# EAGLE library part OSD32MP157F-512M-EAA (library Octavo-Systems OSDZU3)
Octavo Systems LLC OSD32MP15x Family SiP: 18mm x 18mm, 1mm pitch 302 pin BGA contains STM32MP157F, 512MB DDR3L, STPMIC1A, 4kB EEPROM, MEMS oscillators (24MHz) and passives. Temperature range (case): -20C to 85C.
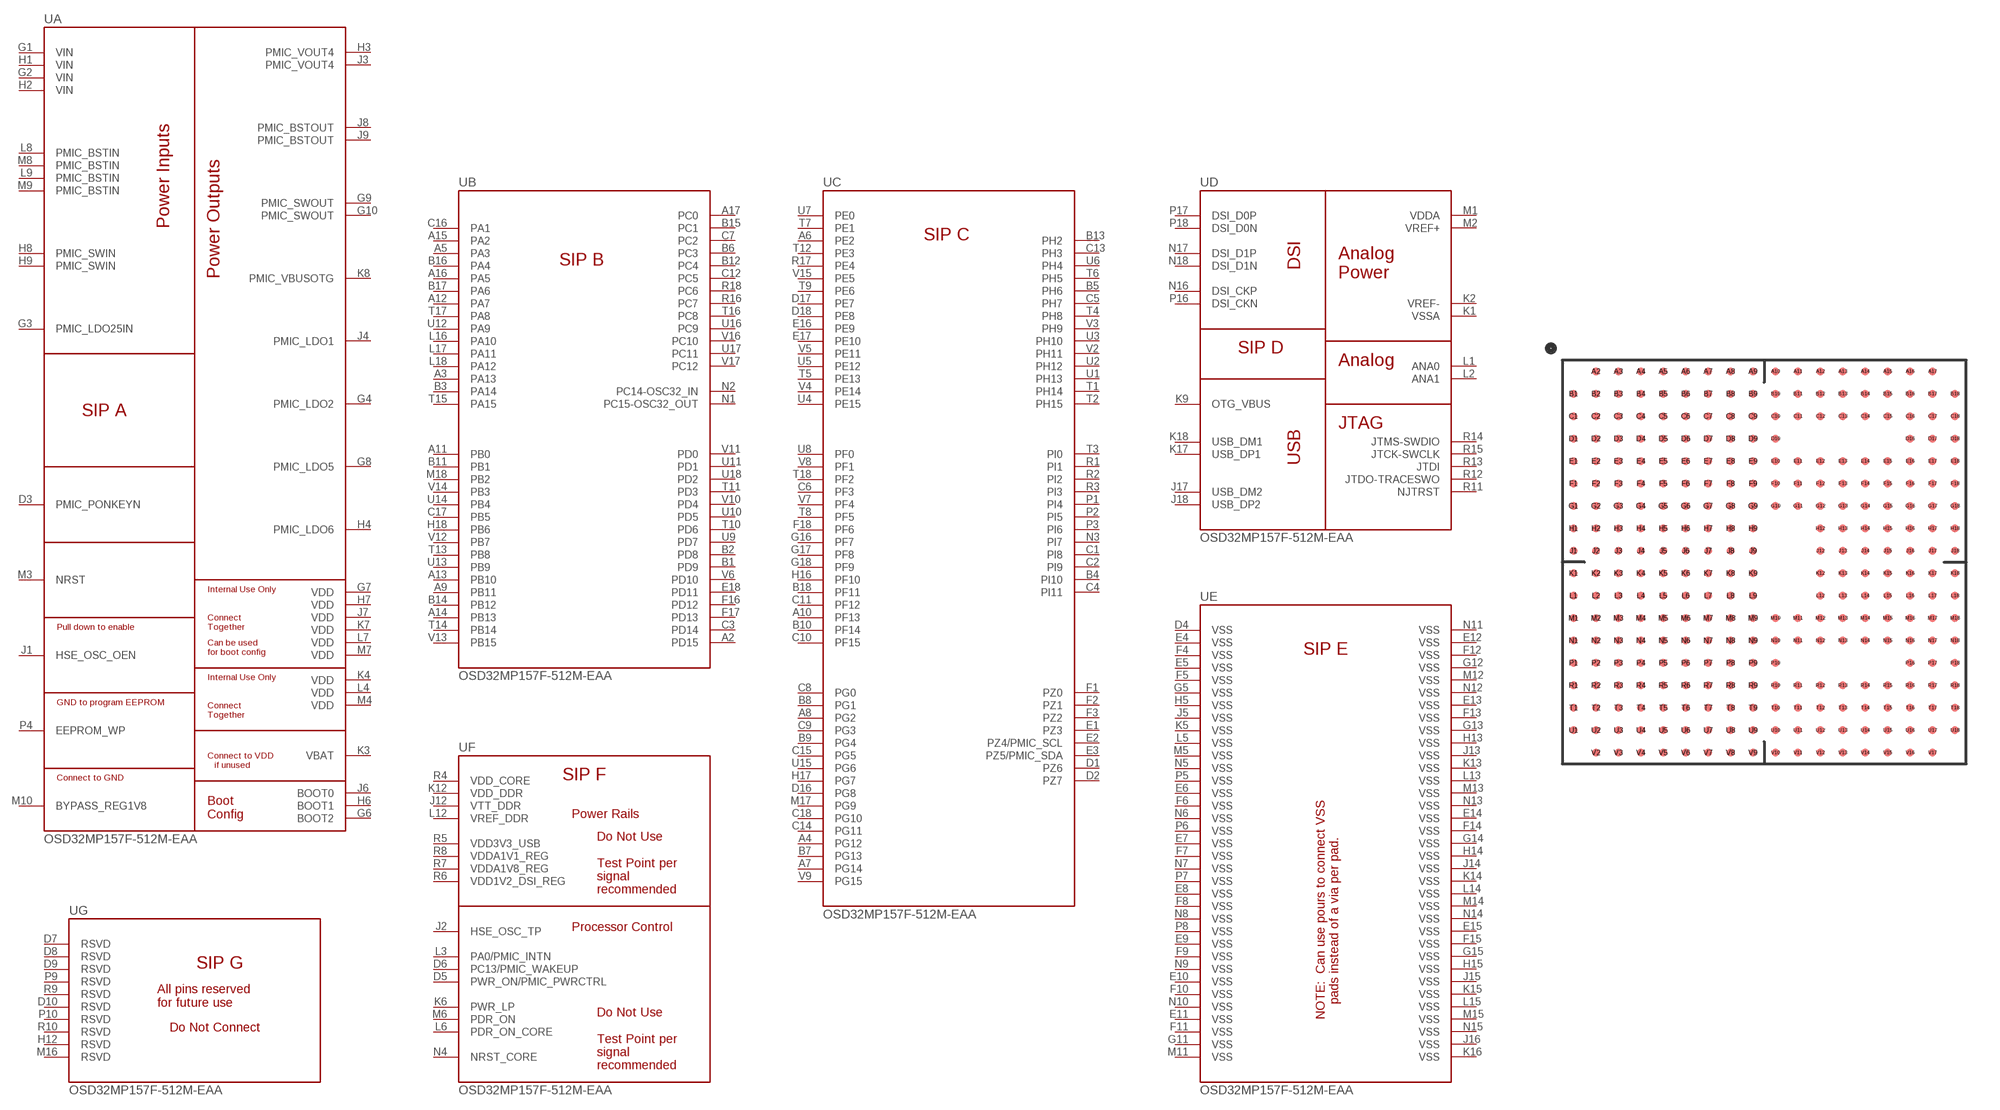
[diagram p11: symbol with the pads of OSD32MP15X-BGA-324; footprint OSD32MP15X-BGA-324]

Designator prefix U; gates A=OSD32MP15X-LOGICAL-A B=OSD32MP15X-LOGICAL-B D=OSD32MP15X-LOGICAL-D C=OSD32MP15X-LOGICAL-C E=OSD32MP15X-LOGICAL-E F=OSD32MP15X-LOGICAL-F G=OSD32MP15X-LOGICAL-G

## OSD32MP157F-512M-EAA  [OSD32MP15X-BGA-324]
A2  B:PD15
A3  B:PA13
A4  C:PG12
A5  B:PA3
A6  C:PE2
A7  C:PG14
A8  C:PG2
A9  B:PB11
A10  C:PF13
A11  B:PB0
A12  B:PA7
A13  B:PB10
A14  B:PB13
A15  B:PA2
A16  B:PA5
A17  B:PC0
B1  B:PD9
B2  B:PD8
B3  B:PA14
B4  C:PI10
B5  C:PH6
B6  B:PC3
B7  C:PG13
B8  C:PG1
B9  C:PG4
B10  C:PF14
B11  B:PB1
B12  B:PC4
B13  C:PH2
B14  B:PB12
B15  B:PC1
B16  B:PA4
B17  B:PA6
B18  C:PF11
C1  C:PI8
C2  C:PI9
C3  B:PD14
C4  C:PI11
C5  C:PH7
C6  C:PF3
C7  B:PC2
C8  C:PG0
C9  C:PG3
C10  C:PF15
C11  C:PF12
C12  B:PC5
C13  C:PH3
C14  C:PG11
C15  C:PG5
C16  B:PA1
C17  B:PB5
C18  C:PG10
D1  C:PZ6
D2  C:PZ7
D3  A:PMIC_PONKEYN
D4  E:VSS
D5  F:PWR_ON/PMIC_PWRCTRL
D6  F:PC13/PMIC_WAKEUP
D7  G:RSVD
D8  G:RSVD
D9  G:RSVD
D10  G:RSVD
D16  C:PG8
D17  C:PE7
D18  C:PE8
E1  C:PZ3
E2  C:PZ4/PMIC_SCL
E3  C:PZ5/PMIC_SDA
E4  E:VSS
E5  E:VSS
E6  E:VSS
E7  E:VSS
E8  E:VSS
E9  E:VSS
E10  E:VSS
E11  E:VSS
E12  E:VSS
E13  E:VSS
E14  E:VSS
E15  E:VSS
E16  C:PE9
E17  C:PE10
E18  B:PD11
F1  C:PZ0
F2  C:PZ1
F3  C:PZ2
F4  E:VSS
F5  E:VSS
F6  E:VSS
F7  E:VSS
F8  E:VSS
F9  E:VSS
F10  E:VSS
F11  E:VSS
F12  E:VSS
F13  E:VSS
F14  E:VSS
F15  E:VSS
F16  B:PD12
F17  B:PD13
F18  C:PF6
G1  A:VIN
G2  A:VIN
G3  A:PMIC_LDO25IN
G4  A:PMIC_LDO2
G5  E:VSS
G6  A:BOOT2
G7  A:VDD
G8  A:PMIC_LDO5
G9  A:PMIC_SWOUT
G10  A:PMIC_SWOUT
G11  E:VSS
G12  E:VSS
G13  E:VSS
G14  E:VSS
G15  E:VSS
G16  C:PF7
G17  C:PF8
G18  C:PF9
H1  A:VIN
H2  A:VIN
H3  A:PMIC_VOUT4
H4  A:PMIC_LDO6
H5  E:VSS
H6  A:BOOT1
H7  A:VDD
H8  A:PMIC_SWIN
H9  A:PMIC_SWIN
H12  G:RSVD
H13  E:VSS
H14  E:VSS
H15  E:VSS
H16  C:PF10
H17  C:PG7
H18  B:PB6
J1  A:HSE_OSC_OEN
J2  F:HSE_OSC_TP
J3  A:PMIC_VOUT4
J4  A:PMIC_LDO1
J5  E:VSS
J6  A:BOOT0
J7  A:VDD
J8  A:PMIC_BSTOUT
J9  A:PMIC_BSTOUT
J12  F:VTT_DDR
J13  E:VSS
J14  E:VSS
J15  E:VSS
J16  E:VSS
J17  D:USB_DM2
J18  D:USB_DP2
K1  D:VSSA
K2  D:VREF-
K3  A:VBAT
K4  A:VDD
K5  E:VSS
K6  F:PWR_LP
K7  A:VDD
K8  A:PMIC_VBUSOTG
K9  D:OTG_VBUS
K12  F:VDD_DDR
K13  E:VSS
K14  E:VSS
K15  E:VSS
K16  E:VSS
K17  D:USB_DP1
K18  D:USB_DM1
L1  D:ANA0
L2  D:ANA1
L3  F:PA0/PMIC_INTN
L4  A:VDD
L5  E:VSS
L6  F:PDR_ON_CORE
L7  A:VDD
L8  A:PMIC_BSTIN
L9  A:PMIC_BSTIN
L12  F:VREF_DDR
L13  E:VSS
L14  E:VSS
L15  E:VSS
L16  B:PA10
L17  B:PA11
L18  B:PA12
M1  D:VDDA
M2  D:VREF+
M3  A:NRST
M4  A:VDD
M5  E:VSS
M6  F:PDR_ON
M7  A:VDD
M8  A:PMIC_BSTIN
M9  A:PMIC_BSTIN
M10  A:BYPASS_REG1V8
M11  E:VSS
M12  E:VSS
M13  E:VSS
M14  E:VSS
M15  E:VSS
M16  G:RSVD
M17  C:PG9
M18  B:PB2
N1  B:PC15-OSC32_OUT
N2  B:PC14-OSC32_IN
N3  C:PI7
N4  F:NRST_CORE
N5  E:VSS
N6  E:VSS
N7  E:VSS
N8  E:VSS
N9  E:VSS
N10  E:VSS
N11  E:VSS
N12  E:VSS
N13  E:VSS
N14  E:VSS
N15  E:VSS
N16  D:DSI_CKP
N17  D:DSI_D1P
N18  D:DSI_D1N
P1  C:PI4
P2  C:PI5
P3  C:PI6
P4  A:EEPROM_WP
P5  E:VSS
P6  E:VSS
P7  E:VSS
P8  E:VSS
P9  G:RSVD
P10  G:RSVD
P16  D:DSI_CKN
P17  D:DSI_D0P
P18  D:DSI_D0N
R1  C:PI1
R2  C:PI2
R3  C:PI3
R4  F:VDD_CORE
R5  F:VDD3V3_USB
R6  F:VDD1V2_DSI_REG
R7  F:VDDA1V8_REG
R8  F:VDDA1V1_REG
R9  G:RSVD
R10  G:RSVD
R11  D:NJTRST
R12  D:JTDO-TRACESWO
R13  D:JTDI
R14  D:JTMS-SWDIO
R15  D:JTCK-SWCLK
R16  B:PC7
R17  C:PE4
R18  B:PC6
T1  C:PH14
T2  C:PH15
T3  C:PI0
T4  C:PH8
T5  C:PE13
T6  C:PH5
T7  C:PE1
T8  C:PF5
T9  C:PE6
T10  B:PD6
T11  B:PD3
T12  C:PE3
T13  B:PB8
T14  B:PB14
T15  B:PA15
T16  B:PC8
T17  B:PA8
T18  C:PF2
U1  C:PH13
U2  C:PH12
U3  C:PH10
U4  C:PE15
U5  C:PE12
U6  C:PH4
U7  C:PE0
U8  C:PF0
U9  B:PD7
U10  B:PD5
U11  B:PD1
U12  B:PA9
U13  B:PB9
U14  B:PB4
U15  C:PG6
U16  B:PC9
U17  B:PC11
U18  B:PD2
V2  C:PH11
V3  C:PH9
V4  C:PE14
V5  C:PE11
V6  B:PD10
V7  C:PF4
V8  C:PF1
V9  C:PG15
V10  B:PD4
V11  B:PD0
V12  B:PB7
V13  B:PB15
V14  B:PB3
V15  C:PE5
V16  B:PC10
V17  B:PC12

## Footprint OSD32MP15X-BGA-324 (pad centres in mm)
smd 0.35 x 0.35: A2 -7.5,8.5; A3 -6.5,8.5; A4 -5.5,8.5; A5 -4.5,8.5; A6 -3.5,8.5; A7 -2.5,8.5; A8 -1.5,8.5; A9 -0.5,8.5; A10 0.5,8.5; A11 1.5,8.5; A12 2.5,8.5; A13 3.5,8.5; A14 4.5,8.5; A15 5.5,8.5; A16 6.5,8.5; A17 7.5,8.5; B1 -8.5,7.5; B2 -7.5,7.5; B3 -6.5,7.5; B4 -5.5,7.5; B5 -4.5,7.5; B6 -3.5,7.5; B7 -2.5,7.5; B8 -1.5,7.5; B9 -0.5,7.5; B10 0.5,7.5; B11 1.5,7.5; B12 2.5,7.5; B13 3.5,7.5; B14 4.5,7.5; B15 5.5,7.5; B16 6.5,7.5; B17 7.5,7.5; B18 8.5,7.5; C1 -8.5,6.5; C2 -7.5,6.5; C3 -6.5,6.5; C4 -5.5,6.5; C5 -4.5,6.5; C6 -3.5,6.5; C7 -2.5,6.5; C8 -1.5,6.5; C9 -0.5,6.5; C10 0.5,6.5; C11 1.5,6.5; C12 2.5,6.5; C13 3.5,6.5; C14 4.5,6.5; C15 5.5,6.5; C16 6.5,6.5; C17 7.5,6.5; C18 8.5,6.5; D1 -8.5,5.5; D2 -7.5,5.5; D3 -6.5,5.5; D4 -5.5,5.5; D5 -4.5,5.5; D6 -3.5,5.5; D7 -2.5,5.5; D8 -1.5,5.5; D9 -0.5,5.5; D10 0.5,5.5; D16 6.5,5.5; D17 7.5,5.5; D18 8.5,5.5; E1 -8.5,4.5; E2 -7.5,4.5; E3 -6.5,4.5; E4 -5.5,4.5; E5 -4.5,4.5; E6 -3.5,4.5; E7 -2.5,4.5; E8 -1.5,4.5; E9 -0.5,4.5; E10 0.5,4.5; E11 1.5,4.5; E12 2.5,4.5; E13 3.5,4.5; E14 4.5,4.5; E15 5.5,4.5; E16 6.5,4.5; E17 7.5,4.5; E18 8.5,4.5; F1 -8.5,3.5; F2 -7.5,3.5; F3 -6.5,3.5; F4 -5.5,3.5; F5 -4.5,3.5; F6 -3.5,3.5; F7 -2.5,3.5; F8 -1.5,3.5; F9 -0.5,3.5; F10 0.5,3.5; F11 1.5,3.5; F12 2.5,3.5; F13 3.5,3.5; F14 4.5,3.5; F15 5.5,3.5; F16 6.5,3.5; F17 7.5,3.5; F18 8.5,3.5; G1 -8.5,2.5; G2 -7.5,2.5; G3 -6.5,2.5; G4 -5.5,2.5; G5 -4.5,2.5; G6 -3.5,2.5; G7 -2.5,2.5; G8 -1.5,2.5; G9 -0.5,2.5; G10 0.5,2.5; G11 1.5,2.5; G12 2.5,2.5; G13 3.5,2.5; G14 4.5,2.5; G15 5.5,2.5; G16 6.5,2.5; G17 7.5,2.5; G18 8.5,2.5; H1 -8.5,1.5; H2 -7.5,1.5; H3 -6.5,1.5; H4 -5.5,1.5; H5 -4.5,1.5; H6 -3.5,1.5; H7 -2.5,1.5; H8 -1.5,1.5; H9 -0.5,1.5; H12 2.5,1.5; H13 3.5,1.5; H14 4.5,1.5; H15 5.5,1.5; H16 6.5,1.5; H17 7.5,1.5; H18 8.5,1.5; J1 -8.5,0.5; J2 -7.5,0.5; J3 -6.5,0.5; J4 -5.5,0.5; J5 -4.5,0.5; J6 -3.5,0.5; J7 -2.5,0.5; J8 -1.5,0.5; J9 -0.5,0.5; J12 2.5,0.5; J13 3.5,0.5; J14 4.5,0.5; J15 5.5,0.5; J16 6.5,0.5; J17 7.5,0.5; J18 8.5,0.5; K1 -8.5,-0.5; K2 -7.5,-0.5; K3 -6.5,-0.5; K4 -5.5,-0.5; K5 -4.5,-0.5; K6 -3.5,-0.5; K7 -2.5,-0.5; K8 -1.5,-0.5; K9 -0.5,-0.5; K12 2.5,-0.5; K13 3.5,-0.5; K14 4.5,-0.5; K15 5.5,-0.5; K16 6.5,-0.5; K17 7.5,-0.5; K18 8.5,-0.5; L1 -8.5,-1.5; L2 -7.5,-1.5; L3 -6.5,-1.5; L4 -5.5,-1.5; L5 -4.5,-1.5; L6 -3.5,-1.5; L7 -2.5,-1.5; L8 -1.5,-1.5; L9 -0.5,-1.5; L12 2.5,-1.5; L13 3.5,-1.5; L14 4.5,-1.5; L15 5.5,-1.5; L16 6.5,-1.5; L17 7.5,-1.5; L18 8.5,-1.5; M1 -8.5,-2.5; M2 -7.5,-2.5; M3 -6.5,-2.5; M4 -5.5,-2.5; M5 -4.5,-2.5; M6 -3.5,-2.5; M7 -2.5,-2.5; M8 -1.5,-2.5; M9 -0.5,-2.5; M10 0.5,-2.5; M11 1.5,-2.5; M12 2.5,-2.5; M13 3.5,-2.5; M14 4.5,-2.5; M15 5.5,-2.5; M16 6.5,-2.5; M17 7.5,-2.5; M18 8.5,-2.5; N1 -8.5,-3.5; N2 -7.5,-3.5; N3 -6.5,-3.5; N4 -5.5,-3.5; N5 -4.5,-3.5; N6 -3.5,-3.5; N7 -2.5,-3.5; N8 -1.5,-3.5; N9 -0.5,-3.5; N10 0.5,-3.5; N11 1.5,-3.5; N12 2.5,-3.5; N13 3.5,-3.5; N14 4.5,-3.5; N15 5.5,-3.5; N16 6.5,-3.5; N17 7.5,-3.5; N18 8.5,-3.5; P1 -8.5,-4.5; P2 -7.5,-4.5; P3 -6.5,-4.5; P4 -5.5,-4.5; P5 -4.5,-4.5; P6 -3.5,-4.5; P7 -2.5,-4.5; P8 -1.5,-4.5; P9 -0.5,-4.5; P10 0.5,-4.5; P16 6.5,-4.5; P17 7.5,-4.5; P18 8.5,-4.5; R1 -8.5,-5.5; R2 -7.5,-5.5; R3 -6.5,-5.5; R4 -5.5,-5.5; R5 -4.5,-5.5; R6 -3.5,-5.5; R7 -2.5,-5.5; R8 -1.5,-5.5; R9 -0.5,-5.5; R10 0.5,-5.5; R11 1.5,-5.5; R12 2.5,-5.5; R13 3.5,-5.5; R14 4.5,-5.5; R15 5.5,-5.5; R16 6.5,-5.5; R17 7.5,-5.5; R18 8.5,-5.5; T1 -8.5,-6.5; T2 -7.5,-6.5; T3 -6.5,-6.5; T4 -5.5,-6.5; T5 -4.5,-6.5; T6 -3.5,-6.5; T7 -2.5,-6.5; T8 -1.5,-6.5; T9 -0.5,-6.5; T10 0.5,-6.5; T11 1.5,-6.5; T12 2.5,-6.5; T13 3.5,-6.5; T14 4.5,-6.5; T15 5.5,-6.5; T16 6.5,-6.5; T17 7.5,-6.5; T18 8.5,-6.5; U1 -8.5,-7.5; U2 -7.5,-7.5; U3 -6.5,-7.5; U4 -5.5,-7.5; U5 -4.5,-7.5; U6 -3.5,-7.5; U7 -2.5,-7.5; U8 -1.5,-7.5; U9 -0.5,-7.5; U10 0.5,-7.5; U11 1.5,-7.5; U12 2.5,-7.5; U13 3.5,-7.5; U14 4.5,-7.5; U15 5.5,-7.5; U16 6.5,-7.5; U17 7.5,-7.5; U18 8.5,-7.5; V2 -7.5,-8.5; V3 -6.5,-8.5; V4 -5.5,-8.5; V5 -4.5,-8.5; V6 -3.5,-8.5; V7 -2.5,-8.5; V8 -1.5,-8.5; V9 -0.5,-8.5; V10 0.5,-8.5; V11 1.5,-8.5; V12 2.5,-8.5; V13 3.5,-8.5; V14 4.5,-8.5; V15 5.5,-8.5; V16 6.5,-8.5; V17 7.5,-8.5